# Altium footprint library SAMTEC_SSW-110-01-XXX-S.PcbLib: 1 footprints
Each footprint in its own frame and in the unit in brackets; x right, y up, seen from the top. Pads: shape width x height; smd on the part's side, far side on the other; paste and mask are expansions set on the pad; w line width, h text height; cw(c..) or ccw(c..) is an arc to the next point about the centre after c.
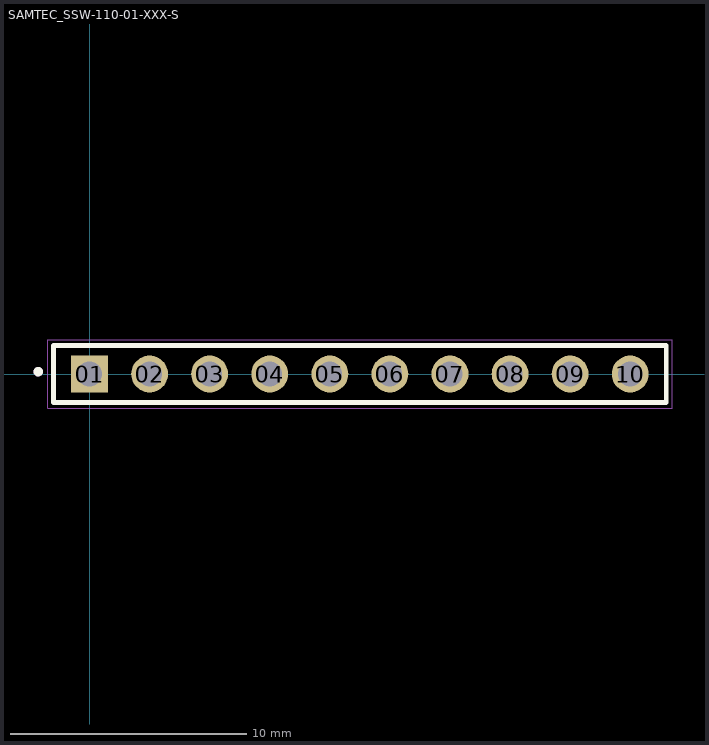
[diagram p0: the footprint, top view; thin cyan lines are the x and y axes]

## SAMTEC_SSW-110-01-XXX-S [mm]
height 8.51
pads (10):
  rect 1.56x1.56 / inner round 1.56 / far side rect 1.56x1.56 hole 1.04: 01(0,0)
  round 1.56 hole 1.04: 02(2.54,0) 03(5.08,0) 04(7.62,0) 05(10.16,0) 06(12.7,0) 07(15.24,0) 08(17.78,0) 09(20.32,0) 10(22.86,0)
Top Overlay:
  circle w0.2: c-2.17,0.1 r0.1
  lines w0.2: -1.525,-1.205 24.385,-1.205 24.385,1.205 -1.525,1.205 -1.525,-1.205
Assembly Top:
  circle w0.2: c-2.17,0.1 r0.1
  lines w0.1: -1.525,-1.205 -1.525,1.205 24.385,1.205 24.385,-1.205 -1.525,-1.205
Courtyard Top:
  lines w0.05: -1.775,-1.455 -1.775,1.455 24.635,1.455 24.635,-1.455 -1.775,-1.455